# Altium footprint library Pcb Library.PcbLib: 30 footprints (part 2 of 2)
Each footprint in its own frame and in the unit in brackets; x right, y up, seen from the top. Pads: shape width x height; smd on the part's side, far side on the other; paste and mask are expansions set on the pad; w line width, h text height; cw(c..) or ccw(c..) is an arc to the next point about the centre after c.
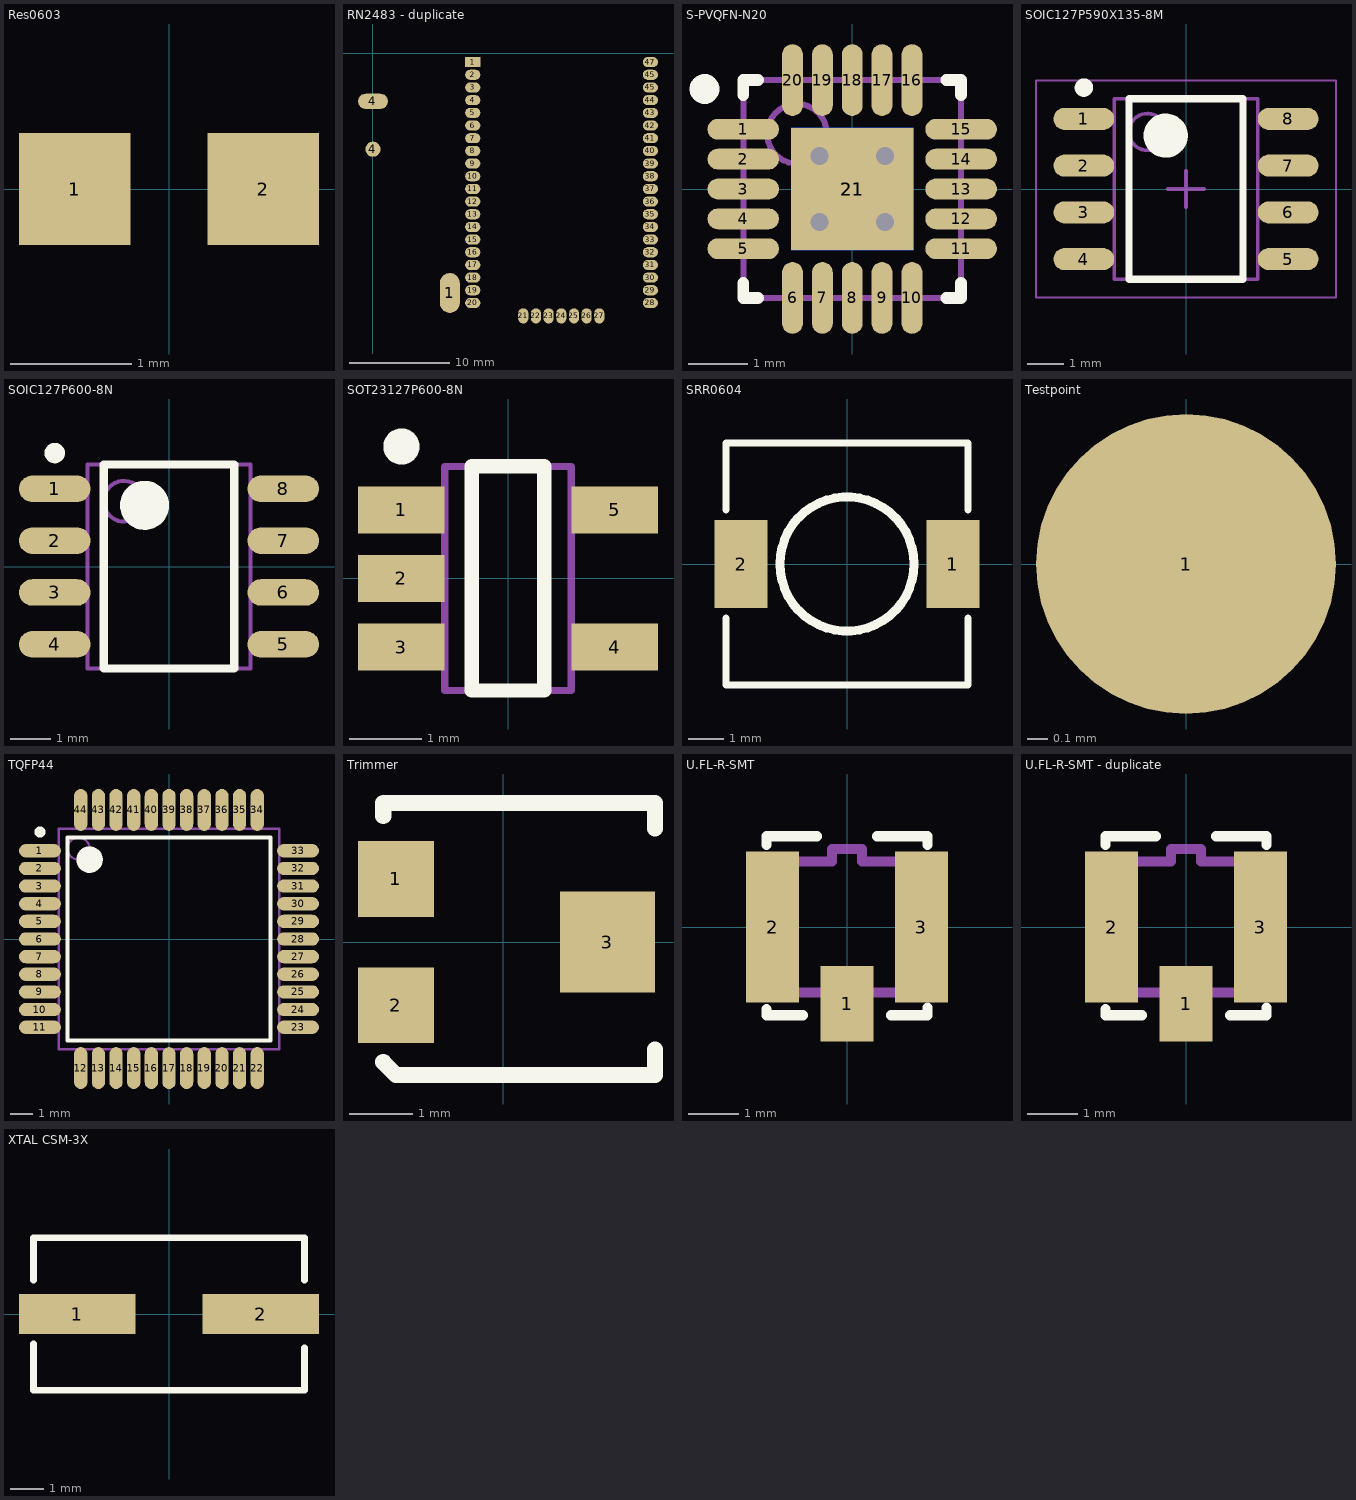
[diagram p1: the footprints below, top view; thin cyan lines are the x and y axes]

## PCBComponent_1 - duplicate1 [mm]

## Res0603 [mm]
pads (2):
  rect 0.925x0.925 smd: 1(-0.78,0) 2(0.78,0)
3D body: height 0.5, standoff 0, extent -0.8,-0.4 0.8,0.4

## RN2483 - duplicate [mm]
pads (50):
  oval 2x4 smd: 1(7.7,-24)
  rect 1.524x1.016 smd: 1(10,-0.875)
  oval 1.524x1.016 smd: 2(10,-2.145) 3(10,-3.415) 4(10,-4.685) 5(10,-5.955) 6(10,-7.225) 7(10,-8.495) 8(10,-9.765) 9(10,-11.035) 10(10,-12.305) 11(10,-13.575) 12(10,-14.845) 13(10,-16.115) 14(10,-17.385) 15(10,-18.655) 16(10,-19.925) 17(10,-21.195) 18(10,-22.465) 19(10,-23.735) 20(10,-25.005) 28(27.8,-25.005) 29(27.8,-23.735) 30(27.8,-22.465) 31(27.8,-21.195) 32(27.8,-19.925) 33(27.8,-18.655) 34(27.8,-17.385) 35(27.8,-16.115) 36(27.8,-14.845) 37(27.8,-13.575) 38(27.8,-12.305) 39(27.8,-11.035) 40(27.8,-9.765) 41(27.8,-8.495) 42(27.8,-7.225) 43(27.8,-5.955) 44(27.8,-4.685) 45(27.8,-3.415) 45(27.8,-2.145) 47(27.8,-0.875)
  round 1.524 smd: 4(0,-9.6)
  oval 3x1.524 smd: 4(0,-4.8)
  oval 1.016x1.524 smd: 21(15.06,-26.3) 22(16.33,-26.3) 23(17.6,-26.3) 24(18.87,-26.3) 25(20.14,-26.3) 26(21.41,-26.3) 27(22.68,-26.3)
3D body: height 1.6, standoff 0, extent 0,-50 20,0
3D body: height 1.8, standoff 1, extent 10.75,-23.775 27,-0.875
3D body: height 0.8, standoff 0, extent 10,-26.225 27.775,-0.275

## S-PVQFN-N20 [mm] "PQFN, 20-Leads, Body 3,50x3,50mm, Pitch 0,50mm, Thermal Pad 2,05x2,05mm, IPC Medium Density"
height 1
pads (22):
  oval 1.2x0.35 smd: 1(-1.825,1) 2(-1.825,0.5) 3(-1.825,0) 4(-1.825,-0.5) 5(-1.825,-1) 11(1.825,-1) 12(1.825,-0.5) 13(1.825,0) 14(1.825,0.5) 15(1.825,1)
  oval 0.35x1.2 smd: 6(-1,-1.825) 7(-0.5,-1.825) 8(0,-1.825) 9(0.5,-1.825) 10(1,-1.825) 16(1,1.825) 17(0.5,1.825) 18(0,1.825) 19(-0.5,1.825) 20(-1,1.825)
  rect 2.05x2.05 smd: 21(0,0)
  rect 2.05x2.05 smd far side: 21(0,0)
via -0.55,0.55 diameter 0.6 hole 0.3
via -0.55,-0.55 diameter 0.6 hole 0.3
via 0.55,-0.55 diameter 0.6 hole 0.3
via 0.55,0.55 diameter 0.6 hole 0.3
Top Overlay:
  circle w0.25: c-2.475,1.675 r0.125
  lines w0.2: -1.825,-1.575 -1.825,-1.825 -1.575,-1.825 ; -1.825,1.575 -1.825,1.825 -1.575,1.825 ; 1.575,-1.825 1.825,-1.825 1.825,-1.575 ; 1.575,1.825 1.825,1.825 1.825,1.575
Mechanical 13:
  circle w0.1: c-0.925,0.925 r0.5
  lines w0.1: -1.825,-1.825 -1.825,1.825 1.825,1.825 1.825,-1.825 -1.825,-1.825
3D body: height 1, standoff 0, extent -1.825,-1.825 1.825,1.825

## SOIC127P590X135-8M [mm] "SOIC, 8-Leads, Body 4,85x3,81mm, Pitch 1,27mm, IPC Low Density"
height 1.35
pads (8):
  oval 1.65x0.6 smd: 1(-2.775,1.905) 2(-2.775,0.635) 3(-2.775,-0.635) 4(-2.775,-1.905) 5(2.775,-1.905) 6(2.775,-0.635) 7(2.775,0.635) 8(2.775,1.905)
Top Overlay:
  circle w0.25: c-2.775,2.755 r0.125
  circle w0.6: c-0.55,1.45 r0.3
  lines w0.2: -1.55,-2.45 -1.55,2.45 1.55,2.45 1.55,-2.45 -1.55,-2.45
Mechanical 13:
  circle w0.1: c-1.05,1.55 r0.5
  lines w0.1: -1.95,-2.45 -1.95,2.45 1.95,2.45 1.95,-2.45 -1.95,-2.45
Mechanical 15:
  lines w0.05: -4.075,-2.95 -4.075,2.95 4.075,2.95 4.075,-2.95 -4.075,-2.95
  lines w0.1: -0.5,0 0.5,0 ; 0,-0.5 0,0.5
3D body "SOIC127P590X135-8M.step": height 1.55, standoff 0, extent -2.953,-2.45 2.953,2.45

## SOIC127P600-8N [mm]
height 1.75
pads (8):
  oval 1.75x0.65 smd: 1(-2.8,1.905) 2(-2.8,0.635) 3(-2.8,-0.635) 4(-2.8,-1.905) 5(2.8,-1.905) 6(2.8,-0.635) 7(2.8,0.635) 8(2.8,1.905)
Top Overlay:
  circle w0.25: c-2.8,2.78 r0.125
  circle w0.6: c-0.6,1.5 r0.3
  lines w0.2: -1.6,-2.5 -1.6,2.5 1.6,2.5 1.6,-2.5 -1.6,-2.5
Mechanical 13:
  circle w0.1: c-1.1,1.6 r0.5
  lines w0.1: -2,-2.5 -2,2.5 2,2.5 2,-2.5 -2,-2.5
3D body "SOIC127P600-8N.step": height 1.75, standoff 0, extent -2.997,-2.5 2.997,2.5

## SOT23127P600-8N [mm]
height 1.45
pads (5):
  rect 1.2x0.65 smd: 1(-1.475,0.95) 2(-1.475,0) 3(-1.475,-0.95) 4(1.475,-0.95) 5(1.475,0.95)
Top Overlay:
  circle w0.25: c-1.475,1.825 r0.125
  lines w0.2: -0.5,-1.55 -0.5,1.55 0.5,1.55 0.5,-1.55 -0.5,-1.55
Mechanical 13:
  lines w0.1: -0.875,-1.55 0.875,-1.55 0.875,1.55 -0.875,1.55 -0.875,-1.55
3D body "SOT23127P600-8N.step": height 1.45, standoff 0, extent -1.5,-1.55 1.5,1.55

## SRR0604 [mm]
pads (2):
  rect 1.5x2.5 smd: 1(3,0) 2(-3,0)
Top Overlay:
  circle w0.254: c0,0 r1.9
  lines w0.2: -3.429,-1.524 -3.429,-3.429 3.429,-3.429 3.429,-1.524 ; -3.429,1.524 -3.429,3.429 3.429,3.429 3.429,1.524
3D body: height 4.6, standoff 0, extent -3.25,-3.25 3.25,3.25

## Testpoint [mm]
pads (1):
  round 1.5 smd paste+0: 1(0,0)

## TQFP44 [mm]
height 1.2
pads (44):
  oval 1.9x0.6 smd: 1(-5.85,4) 2(-5.85,3.2) 3(-5.85,2.4) 4(-5.85,1.6) 5(-5.85,0.8) 6(-5.85,0) 7(-5.85,-0.8) 8(-5.85,-1.6) 9(-5.85,-2.4) 10(-5.85,-3.2) 11(-5.85,-4) 23(5.85,-4) 24(5.85,-3.2) 25(5.85,-2.4) 26(5.85,-1.6) 27(5.85,-0.8) 28(5.85,0) 29(5.85,0.8) 30(5.85,1.6) 31(5.85,2.4) 32(5.85,3.2) 33(5.85,4)
  oval 0.6x1.9 smd: 12(-4,-5.85) 13(-3.2,-5.85) 14(-2.4,-5.85) 15(-1.6,-5.85) 16(-0.8,-5.85) 17(0,-5.85) 18(0.8,-5.85) 19(1.6,-5.85) 20(2.4,-5.85) 21(3.2,-5.85) 22(4,-5.85) 34(4,5.85) 35(3.2,5.85) 36(2.4,5.85) 37(1.6,5.85) 38(0.8,5.85) 39(0,5.85) 40(-0.8,5.85) 41(-1.6,5.85) 42(-2.4,5.85) 43(-3.2,5.85) 44(-4,5.85)
Top Overlay:
  circle w0.6: c-3.6,3.6 r0.3
  circle w0.25: c-5.85,4.85 r0.125
  lines w0.2: -4.6,-4.6 4.6,-4.6 4.6,4.6 -4.6,4.6 -4.6,-4.6
Mechanical 13:
  circle w0.1: c-4.1,4.1 r0.5
  lines w0.1: -5,-5 5,-5 5,5 -5,5 -5,-5
3D body "TQFP44.step": height 1.2, standoff 0, extent -6,-6 6,6

## Trimmer [mm]
pads (3):
  rect 1.2x1.2 smd: 1(-1.7,1) 2(-1.7,-1)
  rect 1.5x1.6 smd: 3(1.65,0)
Top Overlay:
  lines w0.254: -1.9,-1.9 -1.7,-2.1 2.4,-2.1 2.4,-1.7 ; -1.9,2 -1.9,2.2 2.4,2.2 2.4,1.8
Mechanical 1:
  lines w0.254: -1.9,-1.9 -1.9,-1.9
3D body: height 1.7, standoff 0, extent -1.8,-2 2.2,2

## U.FL-R-SMT [mm]
height 6.95
pads (3):
  rect 1.05x1.5 smd: 1(0,-1.525)
  rect 1.05x3 smd: 2(-1.475,0) 3(1.475,0)
Top Overlay:
  lines w0.2: -1.6,-1.625 -1.6,-1.75 -0.875,-1.75 ; -1.6,1.625 -1.6,1.8 -0.6,1.8 ; 0.6,1.8 1.6,1.8 1.6,1.625 ; 0.875,-1.75 1.6,-1.75 1.6,-1.6
Mechanical 3:
  lines w0.2: -1.311,-0.9 -1.5,-0.9 -1.5,0.9 -1.311,0.9 ; -1.3,-0.9 -1.3,-1.3 -0.33,-1.3 ; -1.3,0.9 -1.3,1.3 -0.3,1.3 -0.3,1.55 0.3,1.55 0.3,1.3 1.3,1.3 1.3,0.9 ; -0.3,-1.3 -0.3,-1.55 0.3,-1.55 0.3,-1.3 ; 0.33,-1.3 1.3,-1.3 1.3,-0.9 ; 1.311,-0.9 1.5,-0.9 1.5,0.9 1.311,0.9
3D body: height 0.35, standoff 0, extent -1.5,-1.55 1.5,1.55
3D body: height 1.25, standoff 0, extent -0.992,-0.998 1,0.998

## U.FL-R-SMT - duplicate [mm]
height 6.95
pads (3):
  rect 1.05x1.5 smd: 1(0,-1.525)
  rect 1.05x3 smd: 2(-1.475,0) 3(1.475,0)
Top Overlay:
  lines w0.2: -1.6,-1.625 -1.6,-1.75 -0.875,-1.75 ; -1.6,1.625 -1.6,1.8 -0.6,1.8 ; 0.6,1.8 1.6,1.8 1.6,1.625 ; 0.875,-1.75 1.6,-1.75 1.6,-1.6
Mechanical 3:
  lines w0.2: -1.311,-0.9 -1.5,-0.9 -1.5,0.9 -1.311,0.9 ; -1.3,-0.9 -1.3,-1.3 -0.33,-1.3 ; -1.3,0.9 -1.3,1.3 -0.3,1.3 -0.3,1.55 0.3,1.55 0.3,1.3 1.3,1.3 1.3,0.9 ; -0.3,-1.3 -0.3,-1.55 0.3,-1.55 0.3,-1.3 ; 0.33,-1.3 1.3,-1.3 1.3,-0.9 ; 1.311,-0.9 1.5,-0.9 1.5,0.9 1.311,0.9
3D body: height 1.25, standoff 0, extent -0.992,-0.998 1,0.998
3D body: height 0.35, standoff 0, extent -1.5,-1.55 1.5,1.55

## XTAL CSM-3X [mm] "Crystal 16Mhz"
pads (2):
  rect 3.5x1.2 smd: 1(-2.75,0) 2(2.75,0)
Top Overlay:
  lines w0.2: -4.064,-0.889 -4.064,-2.286 4.064,-2.286 4.064,-1.016 ; -4.064,1.016 -4.064,2.286 4.064,2.286 4.064,1.016
3D body: height 2.3, standoff 0, extent -3.8,-2.05 3.8,2.05